# EAGLE library part MCP2515-I-ML (library MCP2515-I-ML - Standalonce CAN Controller with SPI Interface)
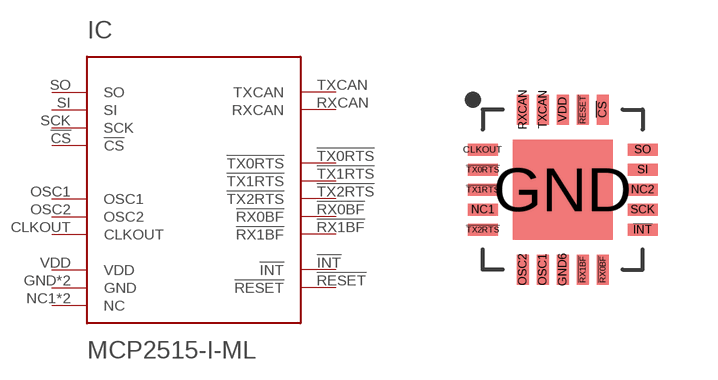
[diagram p0: symbol with the pads of QFN20; footprint QFN20]

Designator prefix IC

## MCP2515-I-ML  [QFN20]
!CS!  !CS!
!INT!  !INT!
!RESET!  !RESET!
!RX0BF!  !RX0BF!
!RX1BF!  !RX1BF!
!TX0RTS!  !TX0RTS!
!TX1RTS!  !TX1RTS!
!TX2RTS!  !TX2RTS!
CLKOUT  CLKOUT
GND  GND  pwr
GND6  GND  pwr
NC1  NC  nc
NC2  NC  nc
OSC1  OSC1
OSC2  OSC2
RXCAN  RXCAN  in
SCK  SCK
SI  SI  in
SO  SO  out
TXCAN  TXCAN  out
VDD  VDD  pwr

## Footprint QFN20 (pad centres in mm)
smd 0.3 x 0.75: !CS! 1,2; !RESET! 0.5,2; !RX0BF! 1,-2; !RX1BF! 0.5,-2; GND6 0,-2; OSC1 -0.5,-2; OSC2 -1,-2; RXCAN -1,2; TXCAN -0.5,2; VDD 0,2
smd 0.75 x 0.3: !INT! 2,-1; !TX0RTS! -2,0.5; !TX1RTS! -2,0; !TX2RTS! -2,-1; CLKOUT -2,1; NC1 -2,-0.5; NC2 2,0; SCK 2,-0.5; SI 2,0.5; SO 2,1
smd 2.5 x 2.5: GND 0,0